# EAGLE library part 7P (library con-degson)
DEGSON DG55 CONNECTOR
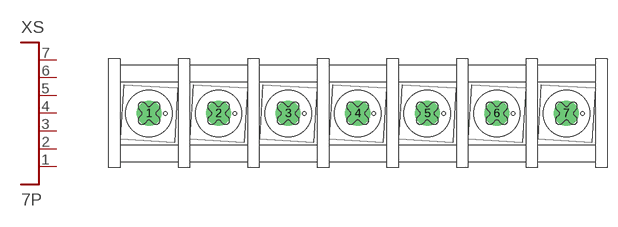
[diagram p1: symbol with the pads of DG55CB-7P-1; footprint DG55CB-7P-1]

Designator prefix XS

## 7P  [DG55CB-7P-1]
1  P$1
2  P$2
3  P$3
4  P$4
5  P$5
6  P$6
7  P$7

## Footprint DG55CB-7P-1 (pad centres in mm)
DG55
drill 1.8 pad 3.6: 1 -30,0; 2 -20,0; 3 -10,0; 4 0,0; 5 10,0; 6 20,0; 7 30,0